# EAGLE library part VP5* (library inductor-cooper)
TRANSFORMER/INDUCTOR
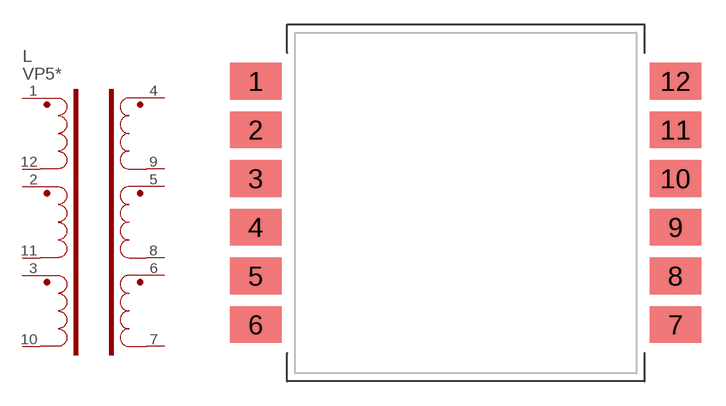
[diagram p4: symbol with the pads of VP5; footprint VP5]

Designator prefix L; gates P1=PNV P2=P P3=P S1=S S2=S S3=S

## VP5 (P1I: o)  [VP5]
1  P1:PH  pas
2  P2:PH  pas
3  P3:PH  pas
4  S1:SH  pas
5  S2:SH  pas
6  S3:SH  pas
7  S3:SC  pas
8  S2:SC  pas
9  S1:SC  pas
10  P3:PC  pas
11  P2:PC  pas
12  P1:PC  pas

## Footprint VP5 (pad centres in mm)
INDUCTOR/TRANSFORMER VP5 and VPH5
smd 3.15 x 2.25: 1 -12.925,7.5; 2 -12.925,4.5; 3 -12.925,1.5; 4 -12.925,-1.5; 5 -12.925,-4.5; 6 -12.925,-7.5; 7 12.925,-7.5; 8 12.925,-4.5; 9 12.925,-1.5; 10 12.925,1.5; 11 12.925,4.5; 12 12.925,7.5